# Altium footprint library MyLib.PcbLib: 105 footprints (part 4 of 7)
Each footprint in its own frame and in the unit in brackets; x right, y up, seen from the top. Pads: shape width x height; smd on the part's side, far side on the other; paste and mask are expansions set on the pad; w line width, h text height; cw(c..) or ccw(c..) is an arc to the next point about the centre after c.
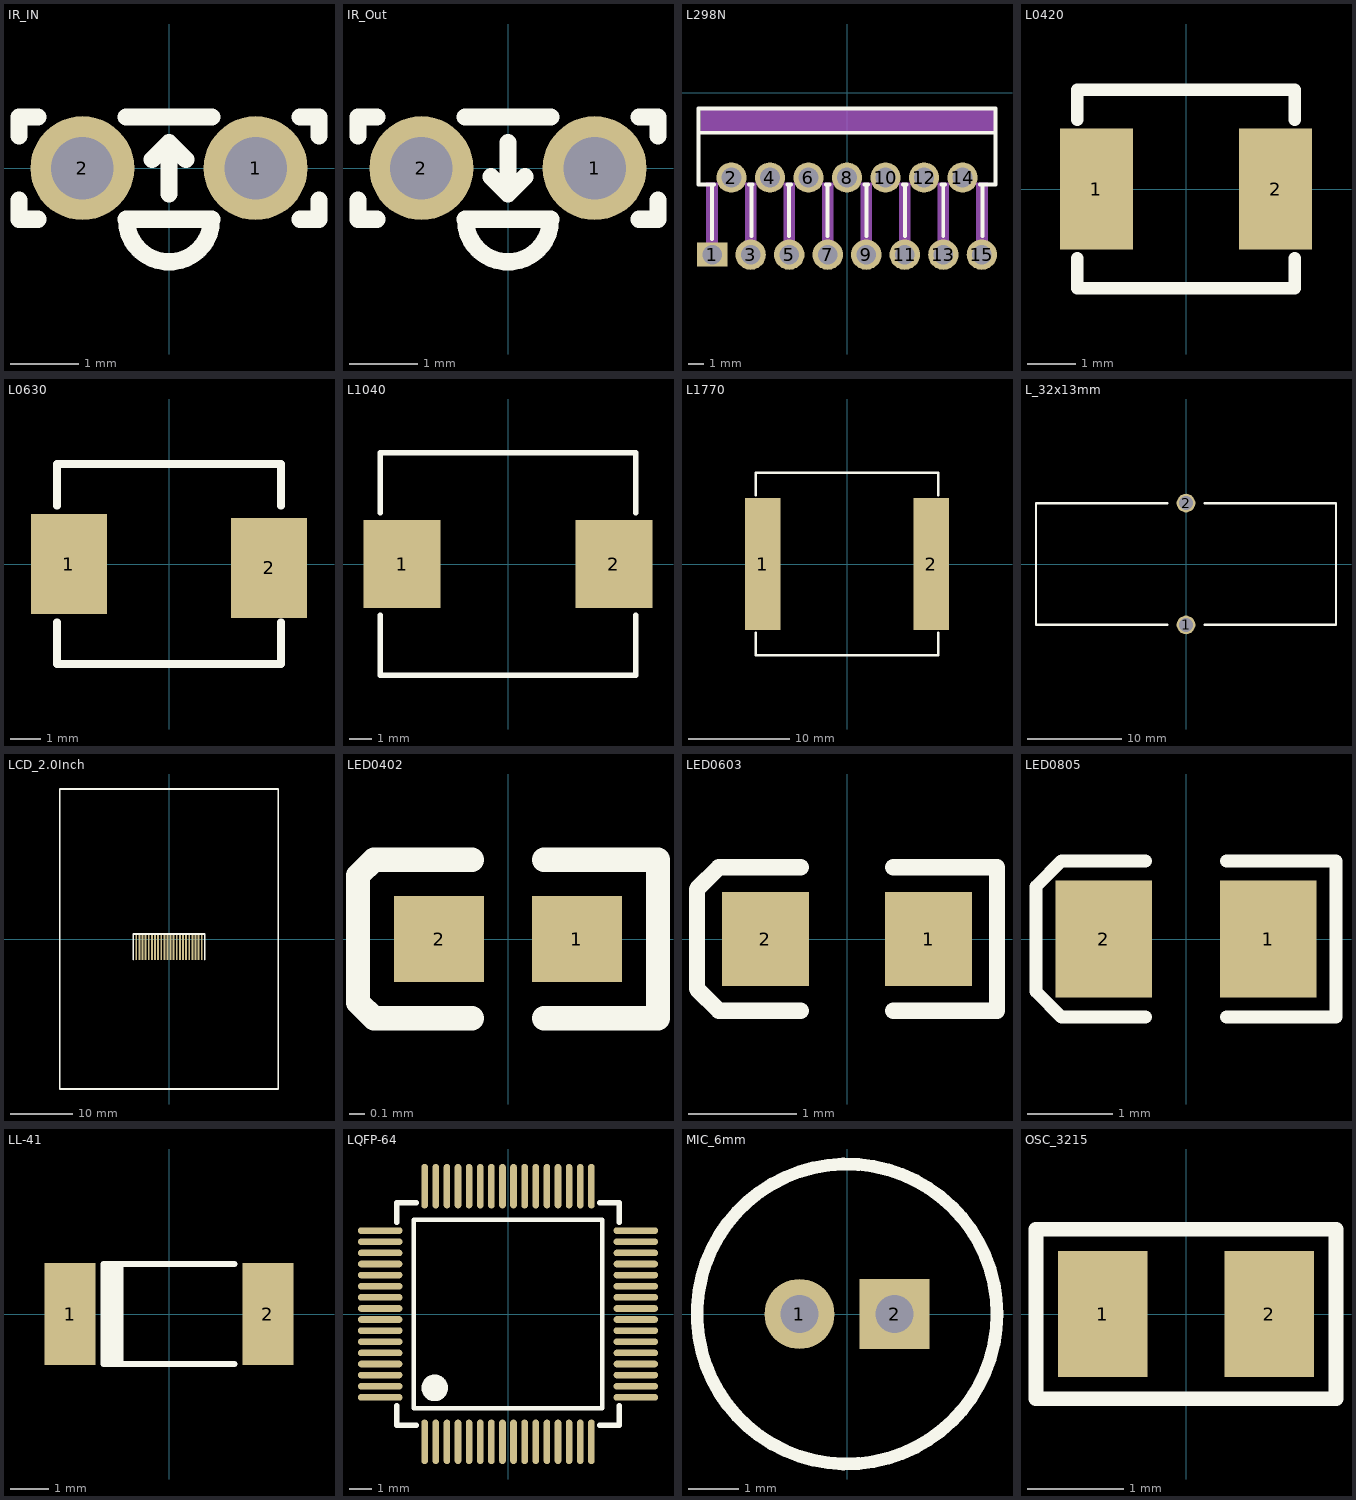
[diagram p3: the footprints below, top view; thin cyan lines are the x and y axes]

## IR_IN [mil]
pads (2):
  round 60 hole 35.98: 1(50,0) 2(-50,0)
Top Overlay:
  lines w10: -86.61,-18.5 -86.61,-29.53 -75.59,-29.53 ; -86.61,18.5 -86.61,29.53 -75.59,29.53 ; -24.61,29.53 24.61,29.53 ; -9.84,4.92 0,14.76 ; 0,-14.76 0,14.76 ; 9.84,4.92 0,14.76 ; 75.59,-29.53 86.61,-29.53 86.61,-18.5 ; 75.59,29.53 86.61,29.53 86.61,18.5 ; -24.61,-29.53 ccw(c0,-29.53) 24.61,-29.53 -24.61,-29.53

## IR_Out [mil]
pads (2):
  round 60 hole 35.98: 1(50,0) 2(-50,0)
Top Overlay:
  lines w10: -86.61,-18.5 -86.61,-29.53 -75.59,-29.53 ; -86.61,18.5 -86.61,29.53 -75.59,29.53 ; -24.61,29.53 24.61,29.53 ; -9.84,-4.92 0,-14.76 ; 0,14.76 0,-14.76 ; 9.84,-4.92 0,-14.76 ; 75.59,-29.53 86.61,-29.53 86.61,-18.5 ; 75.59,29.53 86.61,29.53 86.61,18.5 ; -24.61,-29.53 ccw(c0,-29.53) 24.61,-29.53 -24.61,-29.53

## L298N [mm]
pads (15):
  rect 2x1.6 hole 1.3: 1(-8.89,-10.668)
  round 2 hole 1.3: 2(-7.62,-5.588) 3(-6.35,-10.668) 4(-5.08,-5.588) 5(-3.81,-10.668) 6(-2.54,-5.588) 7(-1.27,-10.668) 8(0,-5.588) 9(1.27,-10.668) 10(2.54,-5.588) 11(3.81,-10.668) 12(5.08,-5.588) 13(6.35,-10.668) 14(7.62,-5.588) 15(8.89,-10.668)
Top Overlay:
  lines w0.254: -9.8,-2.638 9.8,-2.638 ; -8.89,-9.652 -8.89,-6.174 ; -8.766,-6.038 -9.8,-6.038 -9.8,-1.038 9.8,-1.038 9.8,-6.038 8.766,-6.038 ; -6.474,-6.038 -6.226,-6.038 ; -6.308,-9.438 -6.308,-6.038 ; -3.934,-6.038 -3.686,-6.038 ; -3.819,-9.438 -3.819,-6.038 ; -1.394,-6.038 -1.146,-6.038 ; -1.279,-9.438 -1.279,-6.038 ; 1.146,-6.038 1.394,-6.038 ; 1.287,-9.438 1.287,-6.038 ; 3.686,-6.038 3.934,-6.038 ; 3.827,-9.438 3.827,-6.038 ; 6.226,-6.038 6.474,-6.038 ; 6.341,-9.438 6.341,-6.038 ; 8.932,-9.438 8.932,-6.038
Mechanical 6:
  region: -9.652,-1.016 9.779,-1.016 9.779,-2.54 -9.652,-2.54
Mechanical 15:
  region: 8.515,-5.928 9.265,-5.928 9.265,-10.528 8.515,-10.528
  region: 5.975,-5.928 6.725,-5.928 6.725,-10.528 5.975,-10.528
  region: 3.435,-5.928 4.185,-5.928 4.185,-10.528 3.435,-10.528
  region: 0.895,-5.928 1.645,-5.928 1.645,-10.528 0.895,-10.528
  region: -1.645,-5.928 -0.895,-5.928 -0.895,-10.528 -1.645,-10.528
  region: -4.185,-5.928 -3.435,-5.928 -3.435,-10.528 -4.185,-10.528
  region: -6.725,-5.928 -5.975,-5.928 -5.975,-10.528 -6.725,-10.528
  region: -9.265,-5.928 -8.515,-5.928 -8.515,-10.528 -9.265,-10.528
  region: 8.515,-10.408 9.265,-10.408 9.265,-10.928 8.515,-10.928
  region: 7.245,-5.328 7.995,-5.328 7.995,-5.848 7.245,-5.848
  region: 5.975,-10.408 6.725,-10.408 6.725,-10.928 5.975,-10.928
  region: 4.705,-5.328 5.455,-5.328 5.455,-5.848 4.705,-5.848
  region: 3.435,-10.408 4.185,-10.408 4.185,-10.928 3.435,-10.928
  region: 2.165,-5.328 2.915,-5.328 2.915,-5.848 2.165,-5.848
  region: 0.895,-10.408 1.645,-10.408 1.645,-10.928 0.895,-10.928
  region: -0.375,-5.328 0.375,-5.328 0.375,-5.848 -0.375,-5.848
  region: -1.645,-10.408 -0.895,-10.408 -0.895,-10.928 -1.645,-10.928
  region: -2.915,-5.328 -2.165,-5.328 -2.165,-5.848 -2.915,-5.848
  region: -4.185,-10.408 -3.435,-10.408 -3.435,-10.928 -4.185,-10.928
  region: -5.455,-5.328 -4.705,-5.328 -4.705,-5.848 -5.455,-5.848
  region: -6.725,-10.408 -5.975,-10.408 -5.975,-10.928 -6.725,-10.928
  region: -7.995,-5.328 -7.245,-5.328 -7.245,-5.848 -7.995,-5.848
  region: -9.265,-10.408 -8.515,-10.408 -8.515,-10.928 -9.265,-10.928
  region: -9.74,-10.928 -9.74,-10.903 -9.775,-10.868 -9.825,-10.868 -9.86,-10.903 -9.86,-10.928 -9.86,-10.953 -9.825,-10.988 -9.775,-10.988 -9.74,-10.953
  lines w0.051: -9.8,-6.038 9.8,-6.038 9.8,-1.038 -9.8,-1.038 -9.8,-6.038

## L0420 [mm]
pads (2):
  rect 1.5x2.5 smd mask+0.051: 1(-1.85,0) 2(1.85,0)
Top Overlay:
  lines w0.254: -2.25,-1.433 -2.25,-2.05 2.25,-2.05 2.25,-1.433 ; -2.25,1.433 -2.25,2.05 2.25,2.05 2.25,1.433

## L0630 [mm]
pads (2):
  rect 2.5x3.3 smd mask+0.051: 1(-3.302,0) 2(3.302,-0.127)
Top Overlay:
  lines w0.254: -3.7,-1.922 -3.7,-3.3 3.7,-3.3 3.7,-1.922 ; -3.7,1.922 -3.7,3.3 3.7,3.3 3.7,1.922

## L1040 [mm]
pads (2):
  rect 3.5x4 smd mask+0.051: 1(-4.8,0) 2(4.8,0)
Top Overlay:
  lines w0.254: -5.8,-2.328 -5.8,-5.05 5.8,-5.05 5.8,-2.328 ; -5.8,2.328 -5.8,5.05 5.8,5.05 5.8,2.328

## L1770 [mm]
pads (2):
  rect 3.5x13 smd mask+0.051: 1(-8.3,0) 2(8.3,0)
Top Overlay:
  lines w0.254: -9,-6.8 -9,-9 9,-9 9,-6.8 ; -9,6.8 -9,9 9,9 9,6.8

## L_32x13mm [mm]
pads (2):
  round 2 hole 1.5: 1(0,-6.5) 2(0,6.5)
Top Overlay:
  lines w0.254: -2,-6.5 -16,-6.5 -16,6.5 -2,6.5 ; 2,-6.5 16,-6.5 16,6.5 2,6.5

## LCD_2.0Inch [mm]
pads (22):
  rect 0.3x4 smd mask+0.051: 1(-5.25,-1.4) 2(-4.75,-1.4) 3(-4.25,-1.4) 4(-3.75,-1.4) 5(-3.25,-1.4) 6(-2.75,-1.4) 7(-2.25,-1.4) 8(-1.75,-1.4) 9(-1.25,-1.4) 10(-0.75,-1.4) 11(-0.25,-1.4) 12(0.25,-1.4) 13(0.75,-1.4) 14(1.25,-1.4) 15(1.75,-1.4) 16(2.25,-1.4) 17(2.75,-1.4) 18(3.25,-1.4) 19(3.75,-1.4) 20(4.25,-1.4) 21(4.75,-1.4) 22(5.25,-1.4)
Top Overlay:
  lines w0.254: -5.7,-3.3 -5.7,0.8 5.7,0.8 5.7,-3.3 ; -17.5,-24 17.5,-24 17.5,24 -17.5,24 -17.5,-24

## LED0402 [mm]
pads (2):
  rect 0.566x0.54 smd mask+0.051: 1(0.433,0) 2(-0.433,0)
Top Overlay:
  lines w0.152: -0.226,-0.499 -0.844,-0.499 -0.944,-0.399 -0.944,0.399 -0.844,0.499 -0.226,0.499 ; 0.226,-0.499 0.944,-0.499 0.944,0.499 0.226,0.499

## LED0603 [mm]
pads (2):
  rect 0.806x0.864 smd mask+0.051: 1(0.753,0) 2(-0.753,0)
Top Overlay:
  lines w0.152: -0.426,-0.661 -1.185,-0.661 -1.385,-0.461 -1.385,0.461 -1.185,0.661 -0.426,0.661 ; 0.426,-0.661 1.385,-0.661 1.385,0.661 0.426,0.661

## LED0805 [mm]
pads (2):
  rect 1.133x1.377 smd mask+0.051: 1(0.966,0) 2(-0.966,0)
Top Overlay:
  lines w0.152: -0.476,-0.917 -1.461,-0.917 -1.761,-0.617 -1.761,0.617 -1.461,0.917 -0.476,0.917 ; 0.476,-0.917 1.761,-0.917 1.761,0.917 0.476,0.917

## LL-41 [mm]
pads (2):
  rect 1.335x2.646 smd mask+0.102: 1(-2.567,0) 2(2.567,0)
Top Overlay:
  region: -1.697,1.276 -1.189,1.276 -1.189,-1.276 -1.697,-1.276
  lines w0.152: 1.697,-1.301 -1.697,-1.301 -1.697,1.301 1.697,1.301

## LQFP-64 [mm]
pads (64):
  oval 0.3x2 smd mask+0.051: 1(-3.75,-5.75) 2(-3.25,-5.75) 3(-2.75,-5.75) 4(-2.25,-5.75) 5(-1.75,-5.75) 6(-1.25,-5.75) 7(-0.75,-5.75) 8(-0.25,-5.75) 9(0.25,-5.75) 10(0.75,-5.75) 11(1.25,-5.75) 12(1.75,-5.75) 13(2.25,-5.75) 14(2.75,-5.75) 15(3.25,-5.75) 16(3.75,-5.75) 33(3.75,5.75) 34(3.25,5.75) 35(2.75,5.75) 36(2.25,5.75) 37(1.75,5.75) 38(1.25,5.75) 39(0.75,5.75) 40(0.25,5.75) 41(-0.25,5.75) 42(-0.75,5.75) 43(-1.25,5.75) 44(-1.75,5.75) 45(-2.25,5.75) 46(-2.75,5.75) 47(-3.25,5.75) 48(-3.75,5.75)
  oval 2x0.3 smd mask+0.051: 17(5.75,-3.75) 18(5.75,-3.25) 19(5.75,-2.75) 20(5.75,-2.25) 21(5.75,-1.75) 22(5.75,-1.25) 23(5.75,-0.75) 24(5.75,-0.25) 25(5.75,0.25) 26(5.75,0.75) 27(5.75,1.25) 28(5.75,1.75) 29(5.75,2.25) 30(5.75,2.75) 31(5.75,3.25) 49(-5.75,3.75) 50(-5.75,3.25) 51(-5.75,2.75) 52(-5.75,2.25) 53(-5.75,1.75) 54(-5.75,1.25) 55(-5.75,0.75) 56(-5.75,0.25) 57(-5.75,-0.25) 58(-5.75,-0.75) 59(-5.75,-1.25) 60(-5.75,-1.75) 61(-5.75,-2.25) 62(-5.75,-2.75) 63(-5.75,-3.25) 64(-5.75,-3.75)
  oval 2x0.3 smd paste+0 mask+0.051: 32(5.75,3.75)
Top Overlay:
  lines w0.2: -4.25,-4.25 -4.25,4.25 4.25,4.25 4.25,-4.25 -4.25,-4.25
  lines w0.254: -5,4.131 -5,5 -4.131,5 ; -4.131,-5 -5,-5 -5,-4.131 ; 4.131,-5 5,-5 5,-4.131 ; 4.131,5 5,5 5,4.131 ; -5,-4.131 -5,-4.131
  lines w0.6: -3.299,-3.025 ccw(c-3.297,-3.325) -3.294,-3.025

## MIC_6mm [mm]
pads (2):
  round 1.4 hole 0.762: 1(-0.95,0)
  rect 1.4x1.4 hole 0.762: 2(0.95,0)
Top Overlay:
  circle w0.254: c0,0 r3

## OSC_3215 [mm]
pads (2):
  rect 0.925x1.3 smd mask+0.051: 1(-0.863,0) 2(0.863,0)
Top Overlay:
  lines w0.152: -1.554,-0.879 -1.554,0.879 1.554,0.879 1.554,-0.879 -1.554,-0.879